# EAGLE library part ATMEGA32U4 (library FlashPCB_ICs)
ATmega32U4 -8-bit Microcontroller with 32K bytes of ISP Flash and USB Controller Technical Specifications: Core Processor: High Performance, Low Power AVR 8-Bit Microcontroller Speed: 16MHz Component Search: [DATA SHEET NAME] <[FLASHPCB URL]> Datasheet: ATmega16U4/ATmega32U4 <http://ww1.microchip.com/downloads/en/DeviceDoc/Atmel-7766-8-bit-AVR-ATmega16U4-32U4_Summary.pdf>
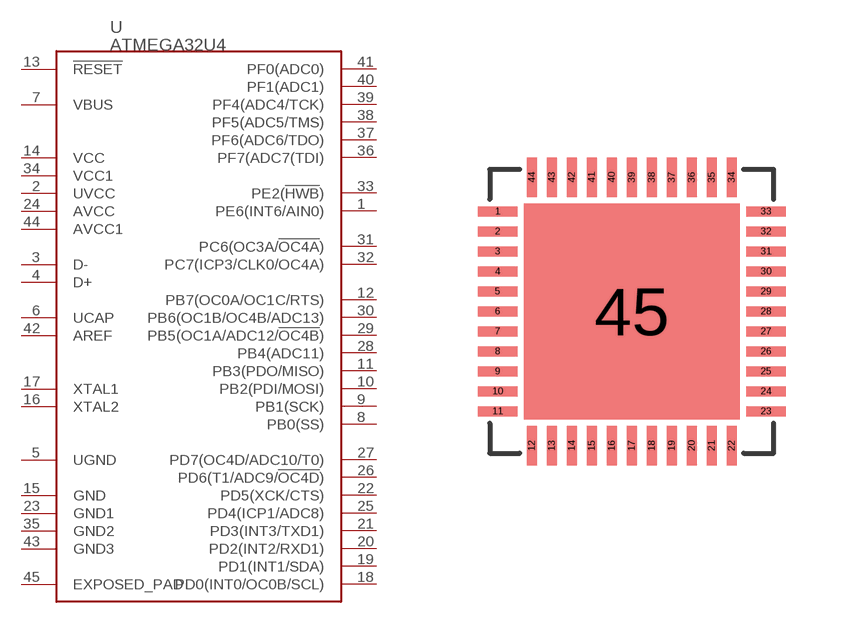
[diagram p13: symbol with the pads of 44-VQFN(7X7)-EXPOSED-PAD; footprint 44-VQFN(7X7)-EXPOSED-PAD]

Designator prefix U

## ATMEGA32U444VQFN  [44-VQFN(7X7)-EXPOSED-PAD]
1  PE6(INT6/AIN0)
2  UVCC
3  D-
4  D+
5  UGND
6  UCAP
7  VBUS
8  PB0(SS)
9  PB1(SCK)
10  PB2(PDI/MOSI)
11  PB3(PDO/MISO)
12  PB7(OC0A/OC1C/RTS)
13  !RESET!
14  VCC
15  GND
16  XTAL2
17  XTAL1
18  PD0(INT0/OC0B/SCL)
19  PD1(INT1/SDA)
20  PD2(INT2/RXD1)
21  PD3(INT3/TXD1)
22  PD5(XCK/CTS)
23  GND1
24  AVCC
25  PD4(ICP1/ADC8)
26  PD6(T1/ADC9/!OC4D!)
27  PD7(OC4D/ADC10/T0)
28  PB4(ADC11)
29  PB5(OC1A/ADC12/!OC4B!)
30  PB6(OC1B/OC4B/ADC13)
31  PC6(OC3A/!OC4A!)
32  PC7(ICP3/CLK0/OC4A)
33  PE2(!HWB!)
34  VCC1
35  GND2
36  PF7(ADC7(TDI)
37  PF6(ADC6/TDO)
38  PF5(ADC5/TMS)
39  PF4(ADC4/TCK)
40  PF1(ADC1)
41  PF0(ADC0)
42  AREF
43  GND3
44  AVCC1
45  EXPOSED_PAD

## Footprint 44-VQFN(7X7)-EXPOSED-PAD (pad centres in mm)
smd 0.995 x 0.249: 1 -3.357,2.5; 2 -3.357,2; 3 -3.357,1.5; 4 -3.357,1; 5 -3.357,0.5; 6 -3.357,0; 7 -3.357,-0.5; 8 -3.357,-1; 9 -3.357,-1.5; 10 -3.357,-2; 11 -3.357,-2.5; 23 3.357,-2.5; 24 3.357,-2; 25 3.357,-1.5; 26 3.357,-1; 27 3.357,-0.5; 28 3.357,0; 29 3.357,0.5; 30 3.357,1; 31 3.357,1.5; 32 3.357,2; 33 3.357,2.5
smd 0.249 x 0.995: 12 -2.5,-3.357; 13 -2,-3.357; 14 -1.5,-3.357; 15 -1,-3.357; 16 -0.5,-3.357; 17 0,-3.357; 18 0.5,-3.357; 19 1,-3.357; 20 1.5,-3.357; 21 2,-3.357; 22 2.5,-3.357; 34 2.5,3.357; 35 2,3.357; 36 1.5,3.357; 37 1,3.357; 38 0.5,3.357; 39 0,3.357; 40 -0.5,3.357; 41 -1,3.357; 42 -1.5,3.357; 43 -2,3.357; 44 -2.5,3.357
smd 5.4 x 5.4: 45 0,0